# EAGLE library part DISTRIBUTION-BACKPLANE (library CONN, Distribution-Backplane)
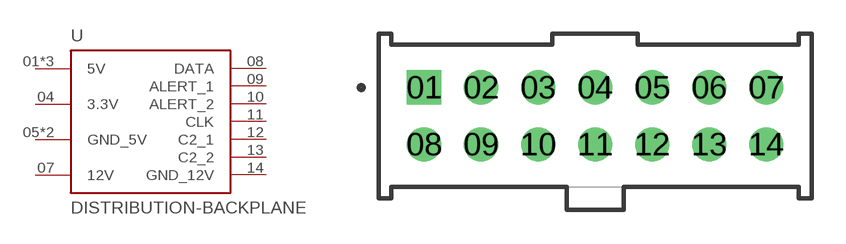
[diagram p0: symbol with the pads of SAMTEC_IPL1-107-01-X-D-K(D-B); footprint SAMTEC_IPL1-107-01-X-D-K(D-B)]

Designator prefix -

## DISTRIBUTION-BACKPLANE  [SAMTEC_IPL1-107-01-X-D-K(D-B)]
01  5V  pas
02  5V  pas
03  5V  pas
04  3.3V  pas
05  GND_5V  pas
06  GND_5V  pas
07  12V  pas
08  DATA  pas
09  ALERT_1  pas
10  ALERT_2  pas
11  CLK  pas
12  C2_1  pas
13  C2_2  pas
14  GND_12V  pas

## Footprint SAMTEC_IPL1-107-01-X-D-K(D-B) (pad centres in mm)
drill 1.02 square: 01 -7.62,1.27
drill 1.02: 02 -5.08,1.27; 03 -2.54,1.27; 04 0,1.27; 05 2.54,1.27; 06 5.08,1.27; 07 7.62,1.27; 08 -7.62,-1.27; 09 -5.08,-1.27; 10 -2.54,-1.27; 11 0,-1.27; 12 2.54,-1.27; 13 5.08,-1.27; 14 7.62,-1.27